# Altium schematic symbol library HD01-T.Schlib: 1 symbol
Pins are listed as number, name and electrical type; pins without a type are passive.

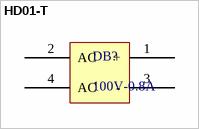
[diagram p0: symbol HD01-T]

## HD01-T
designator DB?, comment 100V-0.8A
Bridge Rectifiers 0.8A 100V
pins: 1 +, 2 AC, 3 -, 4 AC